# Altium integrated library Altium_WS-TASV (rev22a).IntLib: 87 symbols (part 1 of 2)
Pins are listed as number, name and electrical type; pins without a type are passive.

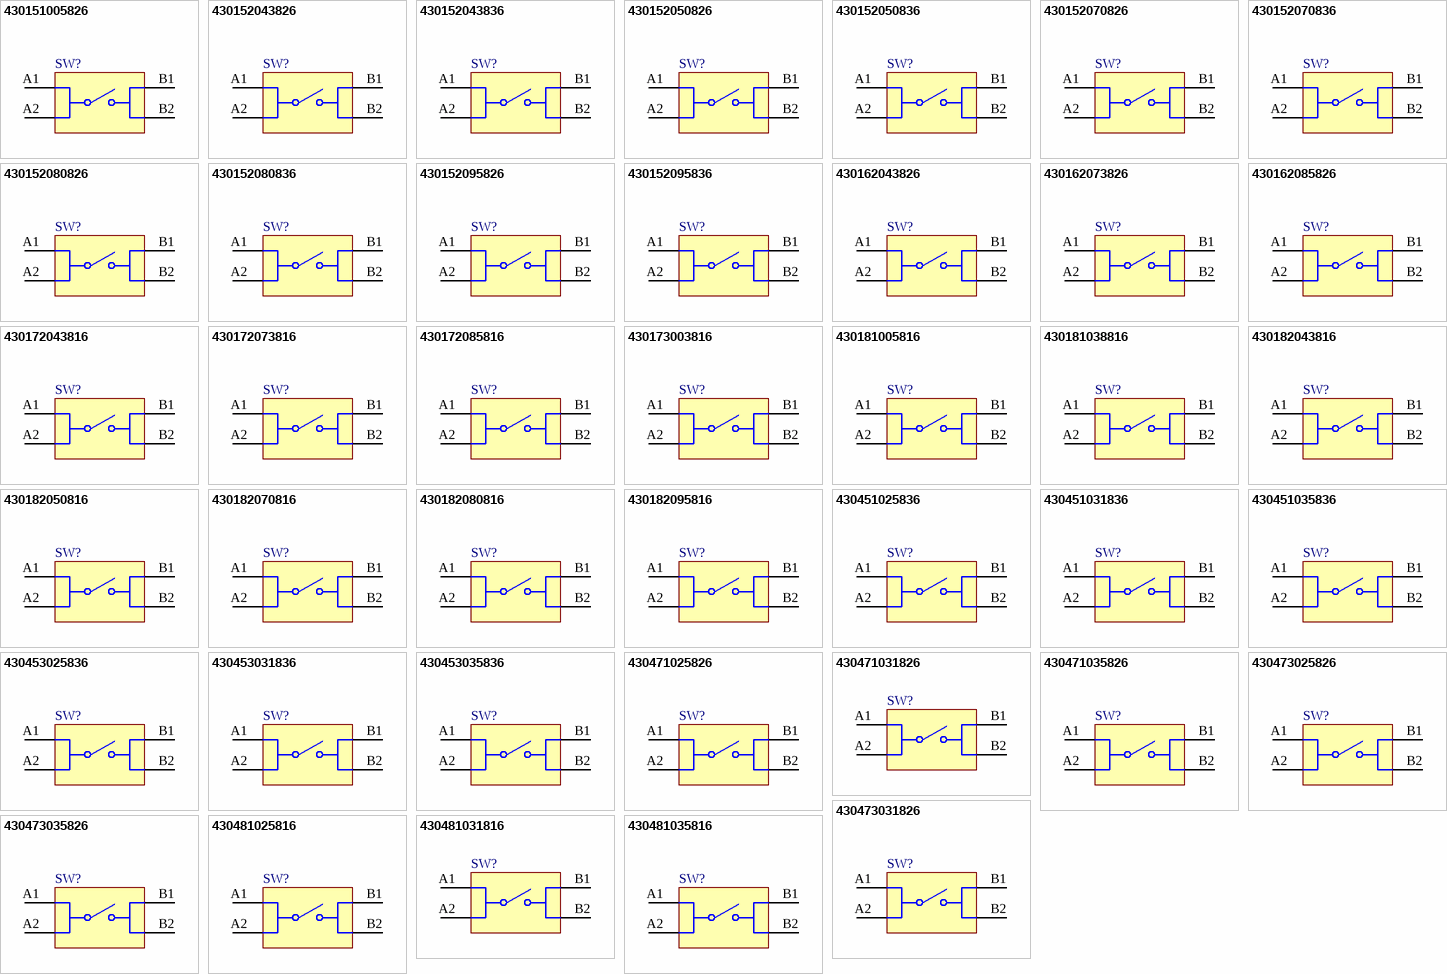
[diagram p0: symbols 430151005826 to 430481035816]

## 430151005826
designator SW?
WS-TASV SMT Tact Switch, 12VDC, 50mA, 260g, height 0.55mm; Manufacturer Part Number: 430151005826; Manufacturer: Wurth Elektronik; Rated Voltage: 12V; Washable: No; Actuator Color: –; Electrical Life: 200000Cycles; ComponentLink1Description: Manufacturer Link; ComponentLink1URL: http://www.we-online.de; ComponentLink2Description: Datasheet; ComponentLink2URL: https://www.we-online.com/catalog/datasheet/430151005826.pdf; Contact Material: Stainless Steel; Mounting Technology: SMT; Contact Plating: Silver; Operation Force: 260g; Packaging: Tape and Reel; Terminal Material: Copper Alloy; Rated Current: 50mA; Terminal Plating: Silver; Height: 0.55mm; Length: 4.5mm; Operating Temperature max.: 85C; Operating Temperature min.: -40C; Width: 4.5mm
footprint WS-TASV_L4.5W4.5H0.55_4301x10058x6
pins: A1, A2, B1, B2

## 430152043826
designator SW?
WS-TASV SMT Tact Switch, 12VDC, 50mA, 260g, height 4.3mm; Manufacturer Part Number: 430152043826; Manufacturer: Wurth Elektronik; Rated Voltage: 12V; Washable: No; Actuator Color: White; Electrical Life: 200000Cycles; ComponentLink1Description: Manufacturer Link; ComponentLink1URL: http://www.we-online.de; ComponentLink2Description: Datasheet; ComponentLink2URL: https://www.we-online.com/catalog/datasheet/430152043826.pdf; Contact Material: Stainless Steel; Mounting Technology: SMT; Contact Plating: Silver; Operation Force: 260g; Packaging: Tape and Reel; Terminal Material: Copper Alloy; Rated Current: 50mA; Terminal Plating: Silver; Height: 4.3mm; Length: 6mm; Operating Temperature max.: 85C; Operating Temperature min.: -40C; Width: 6mm
footprint WS-TASV_L6W6H4.3_4301x20438x6
pins: A1, A2, B1, B2

## 430152043836
designator SW?
WS-TASV SMT Tact Switch, 12VDC, 50mA, 360g, height 4.3mm; Manufacturer Part Number: 430152043836; Manufacturer: Wurth Elektronik; Rated Voltage: 12V; Washable: No; Actuator Color: Salmon; Electrical Life: 200000Cycles; ComponentLink1Description: Manufacturer Link; ComponentLink1URL: http://www.we-online.de; ComponentLink2Description: Datasheet; ComponentLink2URL: https://www.we-online.com/catalog/datasheet/430152043836.pdf; Contact Material: Stainless Steel; Mounting Technology: SMT; Contact Plating: Silver; Operation Force: 360g; Packaging: Tape and Reel; Terminal Material: Copper Alloy; Rated Current: 50mA; Terminal Plating: Silver; Height: 4.3mm; Length: 6mm; Operating Temperature max.: 85C; Operating Temperature min.: -40C; Width: 6mm
footprint WS-TASV_L6W6H4.3_4301x20438x6
pins: A1, A2, B1, B2

## 430152050826
designator SW?
WS-TASV SMT Tact Switch, 12VDC, 50mA, 260g, height 5mm; Manufacturer Part Number: 430152050826; Manufacturer: Wurth Elektronik; Rated Voltage: 12V; Washable: No; Actuator Color: White; Electrical Life: 200000Cycles; ComponentLink1Description: Manufacturer Link; ComponentLink1URL: http://www.we-online.de; ComponentLink2Description: Datasheet; ComponentLink2URL: https://www.we-online.com/catalog/datasheet/430152050826.pdf; Contact Material: Stainless Steel; Mounting Technology: SMT; Contact Plating: Silver; Operation Force: 260g; Packaging: Tape and Reel; Terminal Material: Copper Alloy; Rated Current: 50mA; Terminal Plating: Silver; Height: 5mm; Length: 6mm; Operating Temperature max.: 85C; Operating Temperature min.: -40C; Width: 6mm
footprint WS-TASV_L6W6H5_4301x20508x6
pins: A1, A2, B1, B2

## 430152050836
designator SW?
WS-TASV SMT Tact Switch, 12VDC, 50mA, 360g, height 5mm; Manufacturer Part Number: 430152050836; Manufacturer: Wurth Elektronik; Rated Voltage: 12V; Washable: No; Actuator Color: Salmon; Electrical Life: 200000Cycles; ComponentLink1Description: Manufacturer Link; ComponentLink1URL: http://www.we-online.de; ComponentLink2Description: Datasheet; ComponentLink2URL: https://www.we-online.com/catalog/datasheet/430152050836.pdf; Contact Material: Stainless Steel; Mounting Technology: SMT; Contact Plating: Silver; Operation Force: 360g; Packaging: Tape and Reel; Terminal Material: Copper Alloy; Rated Current: 50mA; Terminal Plating: Silver; Height: 5mm; Length: 6mm; Operating Temperature max.: 85C; Operating Temperature min.: -40C; Width: 6mm
footprint WS-TASV_L6W6H5_4301x20508x6
pins: A1, A2, B1, B2

## 430152070826
designator SW?
WS-TASV SMT Tact Switch, 12VDC, 50mA, 260g, height 7mm; Manufacturer Part Number: 430152070826; Manufacturer: Wurth Elektronik; Rated Voltage: 12V; Washable: No; Actuator Color: White; Electrical Life: 200000Cycles; ComponentLink1Description: Manufacturer Link; ComponentLink1URL: http://www.we-online.de; ComponentLink2Description: Datasheet; ComponentLink2URL: https://www.we-online.com/catalog/datasheet/430152070826.pdf; Contact Material: Stainless Steel; Mounting Technology: SMT; Contact Plating: Silver; Operation Force: 260g; Packaging: Tape and Reel; Terminal Material: Copper Alloy; Rated Current: 50mA; Terminal Plating: Silver; Height: 7mm; Length: 6mm; Operating Temperature max.: 85C; Operating Temperature min.: -40C; Width: 6mm
footprint WS-TASV_L6W6H7_4301x20708x6
pins: A1, A2, B1, B2

## 430152070836
designator SW?
WS-TASV SMT Tact Switch, 12VDC, 50mA, 360g, height 7mm; Manufacturer Part Number: 430152070836; Manufacturer: Wurth Elektronik; Rated Voltage: 12V; Washable: No; Actuator Color: Salmon; Electrical Life: 200000Cycles; ComponentLink1Description: Manufacturer Link; ComponentLink1URL: http://www.we-online.de; ComponentLink2Description: Datasheet; ComponentLink2URL: https://www.we-online.com/catalog/datasheet/430152070836.pdf; Contact Material: Stainless Steel; Mounting Technology: SMT; Contact Plating: Silver; Operation Force: 360g; Packaging: Tape and Reel; Terminal Material: Copper Alloy; Rated Current: 50mA; Terminal Plating: Silver; Height: 7mm; Length: 6mm; Operating Temperature max.: 85C; Operating Temperature min.: -40C; Width: 6mm
footprint WS-TASV_L6W6H7_4301x20708x6
pins: A1, A2, B1, B2

## 430152080826
designator SW?
WS-TASV SMT Tact Switch, 12VDC, 50mA, 260g, height 8mm; Manufacturer Part Number: 430152080826; Manufacturer: Wurth Elektronik; Rated Voltage: 12V; Washable: No; Actuator Color: White; Electrical Life: 200000Cycles; ComponentLink1Description: Manufacturer Link; ComponentLink1URL: http://www.we-online.de; ComponentLink2Description: Datasheet; ComponentLink2URL: https://www.we-online.com/catalog/datasheet/430152080826.pdf; Contact Material: Stainless Steel; Mounting Technology: SMT; Contact Plating: Silver; Operation Force: 260g; Packaging: Tape and Reel; Terminal Material: Copper Alloy; Rated Current: 50mA; Terminal Plating: Silver; Height: 8mm; Length: 6mm; Operating Temperature max.: 85C; Operating Temperature min.: -40C; Width: 6mm
footprint WS-TASV_L6W6H8_4301x20808x6
pins: A1, A2, B1, B2

## 430152080836
designator SW?
WS-TASV SMT Tact Switch, 12VDC, 50mA, 360g, height 8mm; Manufacturer Part Number: 430152080836; Manufacturer: Wurth Elektronik; Rated Voltage: 12V; Washable: No; Actuator Color: Salmon; Electrical Life: 200000Cycles; ComponentLink1Description: Manufacturer Link; ComponentLink1URL: http://www.we-online.de; ComponentLink2Description: Datasheet; ComponentLink2URL: https://www.we-online.com/catalog/datasheet/430152080836.pdf; Contact Material: Stainless Steel; Mounting Technology: SMT; Contact Plating: Silver; Operation Force: 360g; Packaging: Tape and Reel; Terminal Material: Copper Alloy; Rated Current: 50mA; Terminal Plating: Silver; Height: 8mm; Length: 6mm; Operating Temperature max.: 85C; Operating Temperature min.: -40C; Width: 6mm
footprint WS-TASV_L6W6H8_4301x20808x6
pins: A1, A2, B1, B2

## 430152095826
designator SW?
WS-TASV SMT Tact Switch, 12VDC, 50mA, 260g, height 9.5mm; Manufacturer Part Number: 430152095826; Manufacturer: Wurth Elektronik; Rated Voltage: 12V; Washable: No; Actuator Color: White; Electrical Life: 200000Cycles; ComponentLink1Description: Manufacturer Link; ComponentLink1URL: http://www.we-online.de; ComponentLink2Description: Datasheet; ComponentLink2URL: https://www.we-online.com/catalog/datasheet/430152095826.pdf; Contact Material: Stainless Steel; Mounting Technology: SMT; Contact Plating: Silver; Operation Force: 260g; Packaging: Tape and Reel; Terminal Material: Copper Alloy; Rated Current: 50mA; Terminal Plating: Silver; Height: 9.5mm; Length: 6mm; Operating Temperature max.: 85C; Operating Temperature min.: -40C; Width: 6mm
footprint WS-TASV_L6W6H9.5_4301x20958x6
pins: A1, A2, B1, B2

## 430152095836
designator SW?
WS-TASV SMT Tact Switch, 12VDC, 50mA, 360g, height 9.5mm; Manufacturer Part Number: 430152095836; Manufacturer: Wurth Elektronik; Rated Voltage: 12V; Washable: No; Actuator Color: Salmon; Electrical Life: 200000Cycles; ComponentLink1Description: Manufacturer Link; ComponentLink1URL: http://www.we-online.de; ComponentLink2Description: Datasheet; ComponentLink2URL: https://www.we-online.com/catalog/datasheet/430152095836.pdf; Contact Material: Stainless Steel; Mounting Technology: SMT; Contact Plating: Silver; Operation Force: 360g; Packaging: Tape and Reel; Terminal Material: Copper Alloy; Rated Current: 50mA; Terminal Plating: Silver; Height: 9.5mm; Length: 6mm; Operating Temperature max.: 85C; Operating Temperature min.: -40C; Width: 6mm
footprint WS-TASV_L6W6H9.5_4301x20958x6
pins: A1, A2, B1, B2

## 430162043826
designator SW?
WS-TASV SMT Tact Switch, 12VDC, 50mA, 260g, height 4.3mm; Manufacturer Part Number: 430162043826; Manufacturer: Wurth Elektronik; Rated Voltage: 12V; Washable: No; Actuator Color: White; Electrical Life: 300000Cycles; ComponentLink1Description: Manufacturer Link; ComponentLink1URL: http://www.we-online.de; ComponentLink2Description: Datasheet; ComponentLink2URL: https://www.we-online.com/catalog/datasheet/430162043826.pdf; Contact Material: Stainless Steel; Mounting Technology: SMT; Contact Plating: Silver; Operation Force: 260g; Packaging: Tape and Reel; Terminal Material: Copper Alloy; Rated Current: 50mA; Terminal Plating: Silver; Height: 4.3mm; Length: 12mm; Operating Temperature max.: 85C; Operating Temperature min.: -40C; Width: 12mm
footprint WS-TASV_L12W12H4.3_4301x20438x6
pins: A1, A2, B1, B2

## 430162073826
designator SW?
WS-TASV SMT Tact Switch, 12VDC, 50mA, 260g, height 7.3mm; Manufacturer Part Number: 430162073826; Manufacturer: Wurth Elektronik; Rated Voltage: 12V; Washable: No; Actuator Color: White; Electrical Life: 300000Cycles; ComponentLink1Description: Manufacturer Link; ComponentLink1URL: http://www.we-online.de; ComponentLink2Description: Datasheet; ComponentLink2URL: https://www.we-online.com/catalog/datasheet/430162073826.pdf; Contact Material: Stainless Steel; Mounting Technology: SMT; Contact Plating: Silver; Operation Force: 260g; Packaging: Tape and Reel; Terminal Material: Copper Alloy; Rated Current: 50mA; Terminal Plating: Silver; Height: 7.3mm; Length: 12mm; Operating Temperature max.: 85C; Operating Temperature min.: -40C; Width: 12mm
footprint WS-TASV_L12W12H7.3_4301x20738x6
pins: A1, A2, B1, B2

## 430162085826
designator SW?
WS-TASV SMT Tact Switch, 12VDC, 50mA, 260g, height 8.5mm; Manufacturer Part Number: 430162085826; Manufacturer: Wurth Elektronik; Rated Voltage: 12V; Washable: No; Actuator Color: White; Electrical Life: 300000Cycles; ComponentLink1Description: Manufacturer Link; ComponentLink1URL: http://www.we-online.de; ComponentLink2Description: Datasheet; ComponentLink2URL: https://www.we-online.com/catalog/datasheet/430162085826.pdf; Contact Material: Stainless Steel; Mounting Technology: SMT; Contact Plating: Silver; Operation Force: 260g; Packaging: Tape and Reel; Terminal Material: Copper Alloy; Rated Current: 50mA; Terminal Plating: Silver; Height: 8.5mm; Length: 12mm; Operating Temperature max.: 85C; Operating Temperature min.: -40C; Width: 12mm
footprint WS-TASV_L12W12H8.5_4301x20858x6
pins: A1, A2, B1, B2

## 430172043816
designator SW?
WS-TASV SMT Tact Switch, 12VDC, 50mA, 160g, height 4.3mm; Manufacturer Part Number: 430172043816; Manufacturer: Wurth Elektronik; Rated Voltage: 12V; Washable: No; Actuator Color: Black; Electrical Life: 500000Cycles; ComponentLink1Description: Manufacturer Link; ComponentLink1URL: http://www.we-online.de; ComponentLink2Description: Datasheet; ComponentLink2URL: https://www.we-online.com/catalog/datasheet/430172043816.pdf; Contact Material: Stainless Steel; Mounting Technology: SMT; Contact Plating: Silver; Operation Force: 160g; Packaging: Tape and Reel; Terminal Material: Copper Alloy; Rated Current: 50mA; Terminal Plating: Silver; Height: 4.3mm; Length: 12mm; Operating Temperature max.: 85C; Operating Temperature min.: -40C; Width: 12mm
footprint WS-TASV_L12W12H4.3_4301x20438x6
pins: A1, A2, B1, B2

## 430172073816
designator SW?
WS-TASV SMT Tact Switch, 12VDC, 50mA, 160g, height 7.3mm; Manufacturer Part Number: 430172073816; Manufacturer: Wurth Elektronik; Rated Voltage: 12V; Washable: No; Actuator Color: Black; Electrical Life: 500000Cycles; ComponentLink1Description: Manufacturer Link; ComponentLink1URL: http://www.we-online.de; ComponentLink2Description: Datasheet; ComponentLink2URL: https://www.we-online.com/catalog/datasheet/430172073816.pdf; Contact Material: Stainless Steel; Mounting Technology: SMT; Contact Plating: Silver; Operation Force: 160g; Packaging: Tape and Reel; Terminal Material: Copper Alloy; Rated Current: 50mA; Terminal Plating: Silver; Height: 7.3mm; Length: 12mm; Operating Temperature max.: 85C; Operating Temperature min.: -40C; Width: 12mm
footprint WS-TASV_L12W12H7.3_4301x20738x6
pins: A1, A2, B1, B2

## 430172085816
designator SW?
WS-TASV SMT Tact Switch, 12VDC, 50mA, 160g, height 8.5mm; Manufacturer Part Number: 430172085816; Manufacturer: Wurth Elektronik; Rated Voltage: 12V; Washable: No; Actuator Color: Black; Electrical Life: 500000Cycles; ComponentLink1Description: Manufacturer Link; ComponentLink1URL: http://www.we-online.de; ComponentLink2Description: Datasheet; ComponentLink2URL: https://www.we-online.com/catalog/datasheet/430172085816.pdf; Contact Material: Stainless Steel; Mounting Technology: SMT; Contact Plating: Silver; Operation Force: 160g; Packaging: Tape and Reel; Terminal Material: Copper Alloy; Rated Current: 50mA; Terminal Plating: Silver; Height: 8.5mm; Length: 12mm; Operating Temperature max.: 85C; Operating Temperature min.: -40C; Width: 12mm
footprint WS-TASV_L12W12H8.5_4301x20858x6
pins: A1, A2, B1, B2

## 430173003816
designator SW?
WS-TASV J-Bend SMT Tact Switch, 12VDC, 50mA, 160g, height 0.35mm; Manufacturer Part Number: 430173003816; Manufacturer: Wurth Elektronik; Rated Voltage: 12V; Washable: No; Actuator Color: –; Electrical Life: 500000Cycles; ComponentLink1Description: Manufacturer Link; ComponentLink1URL: http://www.we-online.de; ComponentLink2Description: Datasheet; ComponentLink2URL: https://www.we-online.com/catalog/datasheet/430173003816.pdf; Contact Material: Stainless Steel; Mounting Technology: SMT; Contact Plating: Silver; Operation Force: 160g; Packaging: Tape and Reel; Terminal Material: Copper Alloy; Rated Current: 50mA; Terminal Plating: Silver; Height: 0.35mm; Length: 3.7mm; Operating Temperature max.: 85C; Operating Temperature min.: -40C; Width: 3.7mm
footprint WS-TASV_L3.7W3.7H0.35_430173003816
pins: A1, A2, B1, B2

## 430181005816
designator SW?
WS-TASV SMT Tact Switch, 12VDC, 50mA, 160g, height 0.55mm; Manufacturer Part Number: 430181005816; Manufacturer: Wurth Elektronik; Rated Voltage: 12V; Washable: No; Actuator Color: –; Electrical Life: 1000000Cycles; ComponentLink1Description: Manufacturer Link; ComponentLink1URL: http://www.we-online.de; ComponentLink2Description: Datasheet; ComponentLink2URL: https://www.we-online.com/catalog/datasheet/430181005816.pdf; Contact Material: Stainless Steel; Mounting Technology: SMT; Contact Plating: Silver; Operation Force: 160g; Packaging: Tape and Reel; Terminal Material: Copper Alloy; Rated Current: 50mA; Terminal Plating: Silver; Height: 0.55mm; Length: 4.5mm; Operating Temperature max.: 85C; Operating Temperature min.: -40C; Width: 4.5mm
footprint WS-TASV_L4.5W4.5H0.55_4301x10058x6
pins: A1, A2, B1, B2

## 430181038816
designator SW?
WS-TASV SMT Tact Switch, 12VDC, 50mA, 160g, height 3.8mm; Manufacturer Part Number: 430181038816; Manufacturer: Wurth Elektronik; Rated Voltage: 12V; Washable: No; Actuator Color: Black; Electrical Life: 1000000Cycles; ComponentLink1Description: Manufacturer Link; ComponentLink1URL: http://www.we-online.de; ComponentLink2Description: Datasheet; ComponentLink2URL: https://www.we-online.com/catalog/datasheet/430181038816.pdf; Contact Material: Stainless Steel; Mounting Technology: SMT; Contact Plating: Silver; Operation Force: 160g; Packaging: Tape and Reel; Terminal Material: Copper Alloy; Rated Current: 50mA; Terminal Plating: Silver; Height: 3.8mm; Length: 4.5mm; Operating Temperature max.: 85C; Operating Temperature min.: -40C; Width: 4.5mm
footprint WS-TASV_L4.5W4.5H3.8_430181038816
pins: A1, A2, B1, B2

## 430182043816
designator SW?
WS-TASV SMT Tact Switch, 12VDC, 50mA, 160g, height 4.3mm; Manufacturer Part Number: 430182043816; Manufacturer: Wurth Elektronik; Rated Voltage: 12V; Washable: No; Actuator Color: Black; Electrical Life: 1000000Cycles; ComponentLink1Description: Manufacturer Link; ComponentLink1URL: http://www.we-online.de; ComponentLink2Description: Datasheet; ComponentLink2URL: https://www.we-online.com/catalog/datasheet/430182043816.pdf; Contact Material: Stainless Steel; Mounting Technology: SMT; Contact Plating: Silver; Operation Force: 160g; Packaging: Tape and Reel; Terminal Material: Copper Alloy; Rated Current: 50mA; Terminal Plating: Silver; Height: 4.3mm; Length: 6mm; Operating Temperature max.: 85C; Operating Temperature min.: -40C; Width: 6mm
footprint WS-TASV_L6W6H4.3_4301x20438x6
pins: A1, A2, B1, B2

## 430182050816
designator SW?
WS-TASV SMT Tact Switch, 12VDC, 50mA, 160g, height 5mm; Manufacturer Part Number: 430182050816; Manufacturer: Wurth Elektronik; Rated Voltage: 12V; Washable: No; Actuator Color: Black; Electrical Life: 1000000Cycles; ComponentLink1Description: Manufacturer Link; ComponentLink1URL: http://www.we-online.de; ComponentLink2Description: Datasheet; ComponentLink2URL: https://www.we-online.com/catalog/datasheet/430182050816.pdf; Contact Material: Stainless Steel; Mounting Technology: SMT; Contact Plating: Silver; Operation Force: 160g; Packaging: Tape and Reel; Terminal Material: Copper Alloy; Rated Current: 50mA; Terminal Plating: Silver; Height: 5mm; Length: 6mm; Operating Temperature max.: 85C; Operating Temperature min.: -40C; Width: 6mm
footprint WS-TASV_L6W6H5_4301x20508x6
pins: A1, A2, B1, B2

## 430182070816
designator SW?
WS-TASV SMT Tact Switch, 12VDC, 50mA, 160g, height 7mm; Manufacturer Part Number: 430182070816; Manufacturer: Wurth Elektronik; Rated Voltage: 12V; Washable: No; Actuator Color: Black; Electrical Life: 1000000Cycles; ComponentLink1Description: Manufacturer Link; ComponentLink1URL: http://www.we-online.de; ComponentLink2Description: Datasheet; ComponentLink2URL: https://www.we-online.com/catalog/datasheet/430182070816.pdf; Contact Material: Stainless Steel; Mounting Technology: SMT; Contact Plating: Silver; Operation Force: 160g; Packaging: Tape and Reel; Terminal Material: Copper Alloy; Rated Current: 50mA; Terminal Plating: Silver; Height: 7mm; Length: 6mm; Operating Temperature max.: 85C; Operating Temperature min.: -40C; Width: 6mm
footprint WS-TASV_L6W6H7_4301x20708x6
pins: A1, A2, B1, B2

## 430182080816
designator SW?
WS-TASV SMT Tact Switch, 12VDC, 50mA, 160g, height 8mm; Manufacturer Part Number: 430182080816; Manufacturer: Wurth Elektronik; Rated Voltage: 12V; Washable: No; Actuator Color: Black; Electrical Life: 1000000Cycles; ComponentLink1Description: Manufacturer Link; ComponentLink1URL: http://www.we-online.de; ComponentLink2Description: Datasheet; ComponentLink2URL: https://www.we-online.com/catalog/datasheet/430182080816.pdf; Contact Material: Stainless Steel; Mounting Technology: SMT; Contact Plating: Silver; Operation Force: 160g; Packaging: Tape and Reel; Terminal Material: Copper Alloy; Rated Current: 50mA; Terminal Plating: Silver; Height: 8mm; Length: 6mm; Operating Temperature max.: 85C; Operating Temperature min.: -40C; Width: 6mm
footprint WS-TASV_L6W6H8_4301x20808x6
pins: A1, A2, B1, B2

## 430182095816
designator SW?
WS-TASV SMT Tact Switch, 12VDC, 50mA, 160g, height 9.5mm; Manufacturer Part Number: 430182095816; Manufacturer: Wurth Elektronik; Rated Voltage: 12V; Washable: No; Actuator Color: Black; Electrical Life: 1000000Cycles; ComponentLink1Description: Manufacturer Link; ComponentLink1URL: http://www.we-online.de; ComponentLink2Description: Datasheet; ComponentLink2URL: https://www.we-online.com/catalog/datasheet/430182095816.pdf; Contact Material: Stainless Steel; Mounting Technology: SMT; Contact Plating: Silver; Operation Force: 160g; Packaging: Tape and Reel; Terminal Material: Copper Alloy; Rated Current: 50mA; Terminal Plating: Silver; Height: 9.5mm; Length: 6mm; Operating Temperature max.: 85C; Operating Temperature min.: -40C; Width: 6mm
footprint WS-TASV_L6W6H9.5_4301x20958x6
pins: A1, A2, B1, B2

## 430451025836
designator SW?
WS-TASV SMT Washable Tact Switch, 12VDC, 50mA, 360g, height 2.5mm; Manufacturer Part Number: 430451025836; Manufacturer: Wurth Elektronik; Rated Voltage: 12V; Washable: Yes; Actuator Color: Salmon; Electrical Life: 200000Cycles; ComponentLink1Description: Manufacturer Link; ComponentLink1URL: http://www.we-online.de; ComponentLink2Description: Datasheet; ComponentLink2URL: https://www.we-online.com/catalog/datasheet/430451025836.pdf; Contact Material: Stainless Steel; Mounting Technology: SMT; Contact Plating: Silver; Operation Force: 360g; Packaging: Tape and Reel; Terminal Material: Brass; Rated Current: 50mA; Terminal Plating: Silver; Height: 2.5mm; Length: 6mm; Operating Temperature max.: 85C; Operating Temperature min.: -40C; Width: 6mm
footprint WS-TASV_L6W6H2.5_4304x10258x6
pins: A1, A2, B1, B2

## 430451031836
designator SW?
WS-TASV SMT Washable Tact Switch, 12VDC, 50mA, 360g, height 3.1mm; Manufacturer Part Number: 430451031836; Manufacturer: Wurth Elektronik; Rated Voltage: 12V; Washable: Yes; Actuator Color: Salmon; Electrical Life: 200000Cycles; ComponentLink1Description: Manufacturer Link; ComponentLink1URL: http://www.we-online.de; ComponentLink2Description: Datasheet; ComponentLink2URL: https://www.we-online.com/catalog/datasheet/430451031836.pdf; Contact Material: Stainless Steel; Mounting Technology: SMT; Contact Plating: Silver; Operation Force: 360g; Packaging: Tape and Reel; Terminal Material: Brass; Rated Current: 50mA; Terminal Plating: Silver; Height: 3.1mm; Length: 6mm; Operating Temperature max.: 85C; Operating Temperature min.: -40C; Width: 6mm
footprint WS-TASV_L6W6H3.1_4304x10318x6
pins: A1, A2, B1, B2

## 430451035836
designator SW?
WS-TASV SMT Washable Tact Switch, 12VDC, 50mA, 360g, height 3.5mm; Manufacturer Part Number: 430451035836; Manufacturer: Wurth Elektronik; Rated Voltage: 12V; Washable: Yes; Actuator Color: Salmon; Electrical Life: 200000Cycles; ComponentLink1Description: Manufacturer Link; ComponentLink1URL: http://www.we-online.de; ComponentLink2Description: Datasheet; ComponentLink2URL: https://www.we-online.com/catalog/datasheet/430451035836.pdf; Contact Material: Stainless Steel; Mounting Technology: SMT; Contact Plating: Silver; Operation Force: 360g; Packaging: Tape and Reel; Terminal Material: Brass; Rated Current: 50mA; Terminal Plating: Silver; Height: 3.5mm; Length: 6mm; Operating Temperature max.: 85C; Operating Temperature min.: -40C; Width: 6mm
footprint WS-TASV_L6W6H3.5_4304x10358x6
pins: A1, A2, B1, B2

## 430453025836
designator SW?
WS-TASV J-Bend SMT Washable Tact Switch, 12VDC, 50mA, 360g, height 2.5mm; Manufacturer Part Number: 430453025836; Manufacturer: Wurth Elektronik; Rated Voltage: 12V; Washable: Yes; Actuator Color: Salmon; Electrical Life: 200000Cycles; ComponentLink1Description: Manufacturer Link; ComponentLink1URL: http://www.we-online.de; ComponentLink2Description: Datasheet; ComponentLink2URL: https://www.we-online.com/catalog/datasheet/430453025836.pdf; Contact Material: Stainless Steel; Mounting Technology: SMT; Contact Plating: Silver; Operation Force: 360g; Packaging: Tape and Reel; Terminal Material: Copper Alloy; Rated Current: 50mA; Terminal Plating: Silver; Height: 2.5mm; Length: 6mm; Operating Temperature max.: 85C; Operating Temperature min.: -40C; Width: 6mm
footprint WS-TASV_L6W6H2.5_4304x30258x6
pins: A1, A2, B1, B2

## 430453031836
designator SW?
WS-TASV J-Bend SMT Washable Tact Switch, 12VDC, 50mA, 360g, height 3.1mm; Manufacturer Part Number: 430453031836; Manufacturer: Wurth Elektronik; Rated Voltage: 12V; Washable: Yes; Actuator Color: Salmon; Electrical Life: 200000Cycles; ComponentLink1Description: Manufacturer Link; ComponentLink1URL: http://www.we-online.de; ComponentLink2Description: Datasheet; ComponentLink2URL: https://www.we-online.com/catalog/datasheet/430453031836.pdf; Contact Material: Stainless Steel; Mounting Technology: SMT; Contact Plating: Silver; Operation Force: 360g; Packaging: Tape and Reel; Terminal Material: Copper Alloy; Rated Current: 50mA; Terminal Plating: Silver; Height: 3.1mm; Length: 6mm; Operating Temperature max.: 85C; Operating Temperature min.: -40C; Width: 6mm
footprint WS-TASV_L6W6H3.1_4304x30318x6
pins: A1, A2, B1, B2

## 430453035836
designator SW?
WS-TASV J-Bend SMT Washable Tact Switch, 12VDC, 50mA, 360g, height 3.5mm; Manufacturer Part Number: 430453035836; Manufacturer: Wurth Elektronik; Rated Voltage: 12V; Washable: Yes; Actuator Color: Salmon; Electrical Life: 200000Cycles; ComponentLink1Description: Manufacturer Link; ComponentLink1URL: http://www.we-online.de; ComponentLink2Description: Datasheet; ComponentLink2URL: https://www.we-online.com/catalog/datasheet/430453035836.pdf; Contact Material: Stainless Steel; Mounting Technology: SMT; Contact Plating: Silver; Operation Force: 360g; Packaging: Tape and Reel; Terminal Material: Copper Alloy; Rated Current: 50mA; Terminal Plating: Silver; Height: 3.5mm; Length: 6mm; Operating Temperature max.: 85C; Operating Temperature min.: -40C; Width: 6mm
footprint WS-TASV_L6W6H3.5_4304x30358x6
pins: A1, A2, B1, B2

## 430471025826
designator SW?
WS-TASV SMT Washable Tact Switch, 12VDC, 50mA, 260g, height 2.5mm; Manufacturer Part Number: 430471025826; Manufacturer: Wurth Elektronik; Rated Voltage: 12V; Washable: Yes; Actuator Color: White; Electrical Life: 500000Cycles; ComponentLink1Description: Manufacturer Link; ComponentLink1URL: http://www.we-online.de; ComponentLink2Description: Datasheet; ComponentLink2URL: https://www.we-online.com/catalog/datasheet/430471025826.pdf; Contact Material: Stainless Steel; Mounting Technology: SMT; Contact Plating: Silver; Operation Force: 260g; Packaging: Tape and Reel; Terminal Material: Brass; Rated Current: 50mA; Terminal Plating: Silver; Height: 2.5mm; Length: 6mm; Operating Temperature max.: 85C; Operating Temperature min.: -40C; Width: 6mm
footprint WS-TASV_L6W6H2.5_4304x10258x6
pins: A1, A2, B1, B2

## 430471031826
designator SW?
WS-TASV SMT Washable Tact Switch, 12VDC, 50mA, 260g, height 3.1mm; Manufacturer Part Number: 430471031826; Manufacturer: Wurth Elektronik; Rated Voltage: 12V; Washable: Yes; Actuator Color: White; Electrical Life: 500000Cycles; ComponentLink1Description: Manufacturer Link; ComponentLink1URL: http://www.we-online.de; ComponentLink2Description: Datasheet; ComponentLink2URL: https://www.we-online.com/catalog/datasheet/430471031826.pdf; Contact Material: Stainless Steel; Mounting Technology: SMT; Contact Plating: Silver; Operation Force: 260g; Packaging: Tape and Reel; Terminal Material: Brass; Rated Current: 50mA; Terminal Plating: Silver; Height: 3.1mm; Length: 6mm; Operating Temperature max.: 85C; Operating Temperature min.: -40C; Width: 6mm
footprint WS-TASV_L6W6H3.1_4304x10318x6
pins: A1, A2, B1, B2

## 430471035826
designator SW?
WS-TASV SMT Washable Tact Switch, 12VDC, 50mA, 260g, height 3.5mm; Manufacturer Part Number: 430471035826; Manufacturer: Wurth Elektronik; Rated Voltage: 12V; Washable: Yes; Actuator Color: White; Electrical Life: 500000Cycles; ComponentLink1Description: Manufacturer Link; ComponentLink1URL: http://www.we-online.de; ComponentLink2Description: Datasheet; ComponentLink2URL: https://www.we-online.com/catalog/datasheet/430471035826.pdf; Contact Material: Stainless Steel; Mounting Technology: SMT; Contact Plating: Silver; Operation Force: 260g; Packaging: Tape and Reel; Terminal Material: Brass; Rated Current: 50mA; Terminal Plating: Silver; Height: 3.5mm; Length: 6mm; Operating Temperature max.: 85C; Operating Temperature min.: -40C; Width: 6mm
footprint WS-TASV_L6W6H3.5_4304x10358x6
pins: A1, A2, B1, B2

## 430473025826
designator SW?
WS-TASV J-Bend SMT Washable Tact Switch, 12VDC, 50mA, 260g, height 2.5mm; Manufacturer Part Number: 430473025826; Manufacturer: Wurth Elektronik; Rated Voltage: 12V; Washable: Yes; Actuator Color: White; Electrical Life: 500000Cycles; ComponentLink1Description: Manufacturer Link; ComponentLink1URL: http://www.we-online.de; ComponentLink2Description: Datasheet; ComponentLink2URL: https://www.we-online.com/catalog/datasheet/430473025826.pdf; Contact Material: Stainless Steel; Mounting Technology: SMT; Contact Plating: Silver; Operation Force: 260g; Packaging: Tape and Reel; Terminal Material: Copper Alloy; Rated Current: 50mA; Terminal Plating: Silver; Height: 2.5mm; Length: 6mm; Operating Temperature max.: 85C; Operating Temperature min.: -40C; Width: 6mm
footprint WS-TASV_L6W6H2.5_4304x30258x6
pins: A1, A2, B1, B2

## 430473031826
designator SW?
WS-TASV J-Bend SMT Washable Tact Switch, 12VDC, 50mA, 260g, height 3.1mm; Manufacturer Part Number: 430473031826; Manufacturer: Wurth Elektronik; Rated Voltage: 12V; Washable: Yes; Actuator Color: White; Electrical Life: 500000Cycles; ComponentLink1Description: Manufacturer Link; ComponentLink1URL: http://www.we-online.de; ComponentLink2Description: Datasheet; ComponentLink2URL: https://www.we-online.com/catalog/datasheet/430473031826.pdf; Contact Material: Stainless Steel; Mounting Technology: SMT; Contact Plating: Silver; Operation Force: 260g; Packaging: Tape and Reel; Terminal Material: Copper Alloy; Rated Current: 50mA; Terminal Plating: Silver; Height: 3.1mm; Length: 6mm; Operating Temperature max.: 85C; Operating Temperature min.: -40C; Width: 6mm
footprint WS-TASV_L6W6H3.1_4304x30318x6
pins: A1, A2, B1, B2

## 430473035826
designator SW?
WS-TASV J-Bend SMT Washable Tact Switch, 12VDC, 50mA, 260g, height 3.5mm; Manufacturer Part Number: 430473035826; Manufacturer: Wurth Elektronik; Rated Voltage: 12V; Washable: Yes; Actuator Color: White; Electrical Life: 500000Cycles; ComponentLink1Description: Manufacturer Link; ComponentLink1URL: http://www.we-online.de; ComponentLink2Description: Datasheet; ComponentLink2URL: https://www.we-online.com/catalog/datasheet/430473035826.pdf; Contact Material: Stainless Steel; Mounting Technology: SMT; Contact Plating: Silver; Operation Force: 260g; Packaging: Tape and Reel; Terminal Material: Copper Alloy; Rated Current: 50mA; Terminal Plating: Silver; Height: 3.5mm; Length: 6mm; Operating Temperature max.: 85C; Operating Temperature min.: -40C; Width: 6mm
footprint WS-TASV_L6W6H3.5_4304x30358x6
pins: A1, A2, B1, B2

## 430481025816
designator SW?
WS-TASV SMT Washable Tact Switch, 12VDC, 50mA, 160g, height 2.5mm; Manufacturer Part Number: 430481025816; Manufacturer: Wurth Elektronik; Rated Voltage: 12V; Washable: Yes; Actuator Color: Black; Electrical Life: 1000000Cycles; ComponentLink1Description: Manufacturer Link; ComponentLink1URL: http://www.we-online.de; ComponentLink2Description: Datasheet; ComponentLink2URL: https://www.we-online.com/catalog/datasheet/430481025816.pdf; Contact Material: Stainless Steel; Mounting Technology: SMT; Contact Plating: Silver; Operation Force: 160g; Packaging: Tape and Reel; Terminal Material: Brass; Rated Current: 50mA; Terminal Plating: Silver; Height: 2.5mm; Length: 6mm; Operating Temperature max.: 85C; Operating Temperature min.: -40C; Width: 6mm
footprint WS-TASV_L6W6H2.5_4304x10258x6
pins: A1, A2, B1, B2

## 430481031816
designator SW?
WS-TASV SMT Washable Tact Switch, 12VDC, 50mA, 160g, height 3.1mm; Manufacturer Part Number: 430481031816; Manufacturer: Wurth Elektronik; Rated Voltage: 12V; Washable: Yes; Actuator Color: Black; Electrical Life: 1000000Cycles; ComponentLink1Description: Manufacturer Link; ComponentLink1URL: http://www.we-online.de; ComponentLink2Description: Datasheet; ComponentLink2URL: https://www.we-online.com/catalog/datasheet/430481031816.pdf; Contact Material: Stainless Steel; Mounting Technology: SMT; Contact Plating: Silver; Operation Force: 160g; Packaging: Tape and Reel; Terminal Material: Brass; Rated Current: 50mA; Terminal Plating: Silver; Height: 3.1mm; Length: 6mm; Operating Temperature max.: 85C; Operating Temperature min.: -40C; Width: 6mm
footprint WS-TASV_L6W6H3.1_4304x10318x6
pins: A1, A2, B1, B2

## 430481035816
designator SW?
WS-TASV SMT Washable Tact Switch, 12VDC, 50mA, 160g, height 3.5mm; Manufacturer Part Number: 430481035816; Manufacturer: Wurth Elektronik; Rated Voltage: 12V; Washable: Yes; Actuator Color: Black; Electrical Life: 1000000Cycles; ComponentLink1Description: Manufacturer Link; ComponentLink1URL: http://www.we-online.de; ComponentLink2Description: Datasheet; ComponentLink2URL: https://www.we-online.com/catalog/datasheet/430481035816.pdf; Contact Material: Stainless Steel; Mounting Technology: SMT; Contact Plating: Silver; Operation Force: 160g; Packaging: Tape and Reel; Terminal Material: Brass; Rated Current: 50mA; Terminal Plating: Silver; Height: 3.5mm; Length: 6mm; Operating Temperature max.: 85C; Operating Temperature min.: -40C; Width: 6mm
footprint WS-TASV_L6W6H3.5_4304x10358x6
pins: A1, A2, B1, B2

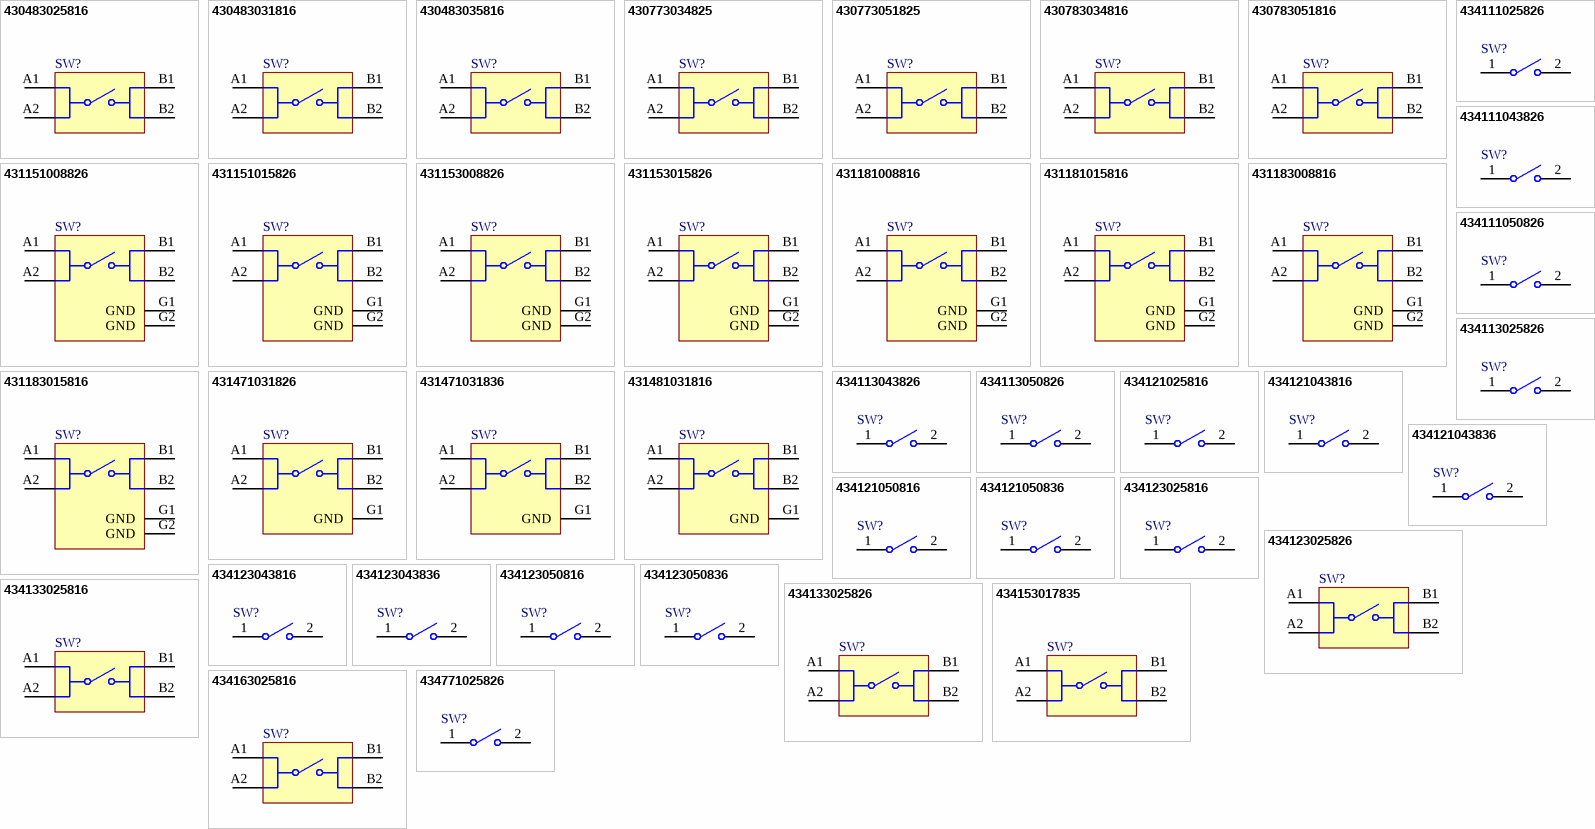
[diagram p1: symbols 430483025816 to 434771025826]

## 430483025816
designator SW?
WS-TASV J-Bend SMT Washable Tact Switch, 12VDC, 50mA, 160g, height 2.5mm; Manufacturer Part Number: 430483025816; Manufacturer: Wurth Elektronik; Rated Voltage: 12V; Washable: Yes; Actuator Color: Black; Electrical Life: 1000000Cycles; ComponentLink1Description: Manufacturer Link; ComponentLink1URL: http://www.we-online.de; ComponentLink2Description: Datasheet; ComponentLink2URL: https://www.we-online.com/catalog/datasheet/430483025816.pdf; Contact Material: Stainless Steel; Mounting Technology: SMT; Contact Plating: Silver; Operation Force: 160g; Packaging: Tape and Reel; Terminal Material: Copper Alloy; Rated Current: 50mA; Terminal Plating: Silver; Height: 2.5mm; Length: 6mm; Operating Temperature max.: 85C; Operating Temperature min.: -40C; Width: 6mm
footprint WS-TASV_L6W6H2.5_4304x30258x6
pins: A1, A2, B1, B2

## 430483031816
designator SW?
WS-TASV J-Bend SMT Washable Tact Switch, 12VDC, 50mA, 160g, height 3.1mm; Manufacturer Part Number: 430483031816; Manufacturer: Wurth Elektronik; Rated Voltage: 12V; Washable: Yes; Actuator Color: Black; Electrical Life: 1000000Cycles; ComponentLink1Description: Manufacturer Link; ComponentLink1URL: http://www.we-online.de; ComponentLink2Description: Datasheet; ComponentLink2URL: https://www.we-online.com/catalog/datasheet/430483031816.pdf; Contact Material: Stainless Steel; Mounting Technology: SMT; Contact Plating: Silver; Operation Force: 160g; Packaging: Tape and Reel; Terminal Material: Copper Alloy; Rated Current: 50mA; Terminal Plating: Silver; Height: 3.1mm; Length: 6mm; Operating Temperature max.: 85C; Operating Temperature min.: -40C; Width: 6mm
footprint WS-TASV_L6W6H3.1_4304x30318x6
pins: A1, A2, B1, B2

## 430483035816
designator SW?
WS-TASV J-Bend SMT Washable Tact Switch, 12VDC, 50mA, 160g, height 3.5mm; Manufacturer Part Number: 430483035816; Manufacturer: Wurth Elektronik; Rated Voltage: 12V; Washable: Yes; Actuator Color: Black; Electrical Life: 1000000Cycles; ComponentLink1Description: Manufacturer Link; ComponentLink1URL: http://www.we-online.de; ComponentLink2Description: Datasheet; ComponentLink2URL: https://www.we-online.com/catalog/datasheet/430483035816.pdf; Contact Material: Stainless Steel; Mounting Technology: SMT; Contact Plating: Silver; Operation Force: 160g; Packaging: Tape and Reel; Terminal Material: Copper Alloy; Rated Current: 50mA; Terminal Plating: Silver; Height: 3.5mm; Length: 6mm; Operating Temperature max.: 85C; Operating Temperature min.: -40C; Width: 6mm
footprint WS-TASV_L6W6H3.5_4304x30358x6
pins: A1, A2, B1, B2

## 430773034825
designator SW?
WS-TASV J-Hook SMT Hermetic Tact Switch, 12VDC, 50mA, 250g, height 3.4mm; Manufacturer Part Number: 430773034825; Manufacturer: Wurth Elektronik; Rated Voltage: 12V; Washable: Yes; Actuator Color: Grey; Electrical Life: 500000Cycles; ComponentLink1Description: Manufacturer Link; ComponentLink1URL: http://www.we-online.de; ComponentLink2Description: Datasheet; ComponentLink2URL: https://www.we-online.com/catalog/datasheet/430773034825.pdf; Contact Material: Stainless Steel; Mounting Technology: SMT; Contact Plating: Silver; Operation Force: 250g; Packaging: Tape and Reel; Terminal Material: Copper Alloy; Rated Current: 50mA; Terminal Plating: Silver; Height: 3.4mm; Length: 6mm; Operating Temperature max.: 85C; Operating Temperature min.: -40C; Width: 6mm
footprint WS-TASV_L6W6H3.4_4307x30348xx
pins: A1, A2, B1, B2

## 430773051825
designator SW?
WS-TASV J-Hook SMT Hermetic Tact Switch, 12VDC, 50mA, 250g, height 5.1mm; Manufacturer Part Number: 430773051825; Manufacturer: Wurth Elektronik; Rated Voltage: 12V; Washable: Yes; Actuator Color: Grey; Electrical Life: 500000Cycles; ComponentLink1Description: Manufacturer Link; ComponentLink1URL: http://www.we-online.de; ComponentLink2Description: Datasheet; ComponentLink2URL: https://www.we-online.com/catalog/datasheet/430773051825.pdf; Contact Material: Stainless Steel; Mounting Technology: SMT; Contact Plating: Silver; Operation Force: 250g; Packaging: Tape and Reel; Terminal Material: Copper Alloy; Rated Current: 50mA; Terminal Plating: Silver; Height: 5.1mm; Length: 6mm; Operating Temperature max.: 85C; Operating Temperature min.: -40C; Width: 6mm
footprint WS-TASV_L6W6H5.1_4307x30518xx
pins: A1, A2, B1, B2

## 430783034816
designator SW?
WS-TASV J-Hook SMT Hermetic Tact Switch, 12VDC, 50mA, 160g, height 3.4mm; Manufacturer Part Number: 430783034816; Manufacturer: Wurth Elektronik; Rated Voltage: 12V; Washable: Yes; Actuator Color: White; Electrical Life: 1000000Cycles; ComponentLink1Description: Manufacturer Link; ComponentLink1URL: http://www.we-online.de; ComponentLink2Description: Datasheet; ComponentLink2URL: https://www.we-online.com/catalog/datasheet/430783034816.pdf; Contact Material: Stainless Steel; Mounting Technology: SMT; Contact Plating: Silver; Operation Force: 160g; Packaging: Tape and Reel; Terminal Material: Copper Alloy; Rated Current: 50mA; Terminal Plating: Silver; Height: 3.4mm; Length: 6mm; Operating Temperature max.: 85C; Operating Temperature min.: -40C; Width: 6mm
footprint WS-TASV_L6W6H3.4_4307x30348xx
pins: A1, A2, B1, B2

## 430783051816
designator SW?
WS-TASV J-Hook SMT Hermetic Tact Switch, 12VDC, 50mA, 160g, height 5.1mm; Manufacturer Part Number: 430783051816; Manufacturer: Wurth Elektronik; Rated Voltage: 12V; Washable: Yes; Actuator Color: White; Electrical Life: 1000000Cycles; ComponentLink1Description: Manufacturer Link; ComponentLink1URL: http://www.we-online.de; ComponentLink2Description: Datasheet; ComponentLink2URL: https://www.we-online.com/catalog/datasheet/430783051816.pdf; Contact Material: Stainless Steel; Mounting Technology: SMT; Contact Plating: Silver; Operation Force: 160g; Packaging: Tape and Reel; Terminal Material: Copper Alloy; Rated Current: 50mA; Terminal Plating: Silver; Height: 5.1mm; Length: 6mm; Operating Temperature max.: 85C; Operating Temperature min.: -40C; Width: 6mm
footprint WS-TASV_L6W6H5.1_4307x30518xx
pins: A1, A2, B1, B2

## 431151008826
designator SW?
WS-TASV SMT Tact Switch with ground terminal, 15VDC, 20mA, 260g, height 0.8mm; Manufacturer Part Number: 431151008826; Manufacturer: Wurth Elektronik; Rated Voltage: 15V; Washable: No; Actuator Color: –; Electrical Life: 200000Cycles; ComponentLink1Description: Manufacturer Link; ComponentLink1URL: http://www.we-online.de; ComponentLink2Description: Datasheet; ComponentLink2URL: https://www.we-online.com/catalog/datasheet/431151008826.pdf; Contact Material: Stainless Steel; Mounting Technology: SMT; Contact Plating: Silver; Operation Force: 260g; Packaging: Tape and Reel; Terminal Material: Copper Alloy; Rated Current: 20mA; Terminal Plating: Silver; Height: 0.8mm; Length: 5mm; Operating Temperature max.: 85C; Operating Temperature min.: -40C; Width: 5mm
footprint WS-TASV_L5W5H0.8_4311x10088x6
pins: A1, A2, B1, B2, G1 GND, G2 GND

## 431151015826
designator SW?
WS-TASV SMT Tact Switch with ground terminal, 15VDC, 20mA, 260g, height 1.5mm; Manufacturer Part Number: 431151015826; Manufacturer: Wurth Elektronik; Rated Voltage: 15V; Washable: No; Actuator Color: White; Electrical Life: 200000Cycles; ComponentLink1Description: Manufacturer Link; ComponentLink1URL: http://www.we-online.de; ComponentLink2Description: Datasheet; ComponentLink2URL: https://www.we-online.com/catalog/datasheet/431151015826.pdf; Contact Material: Stainless Steel; Mounting Technology: SMT; Contact Plating: Silver; Operation Force: 260g; Packaging: Tape and Reel; Terminal Material: Copper Alloy; Rated Current: 20mA; Terminal Plating: Silver; Height: 1.5mm; Length: 5mm; Operating Temperature max.: 85C; Operating Temperature min.: -40C; Width: 5mm
footprint WS-TASV_L5W5H1.5_4311x10158x6
pins: A1, A2, B1, B2, G1 GND, G2 GND

## 431153008826
designator SW?
WS-TASV J-Bend SMT Tact Switch with ground terminal, 15VDC, 20mA, 260g, height 0.8mm; Manufacturer Part Number: 431153008826; Manufacturer: Wurth Elektronik; Rated Voltage: 15V; Washable: No; Actuator Color: –; Electrical Life: 200000Cycles; ComponentLink1Description: Manufacturer Link; ComponentLink1URL: http://www.we-online.de; ComponentLink2Description: Datasheet; ComponentLink2URL: https://www.we-online.com/catalog/datasheet/431153008826.pdf; Contact Material: Stainless Steel; Mounting Technology: SMT; Contact Plating: Silver; Operation Force: 260g; Packaging: Tape and Reel; Terminal Material: Copper Alloy; Rated Current: 20mA; Terminal Plating: Silver; Height: 0.8mm; Length: 5mm; Operating Temperature max.: 85C; Operating Temperature min.: -40C; Width: 5mm
footprint WS-TASV_L5W5H0.8_4311x30088x6
pins: A1, A2, B1, B2, G1 GND, G2 GND

## 431153015826
designator SW?
WS-TASV J-Bend SMT Tact Switch with ground terminal, 15VDC, 20mA, 260g, height 1.5mm; Manufacturer Part Number: 431153015826; Manufacturer: Wurth Elektronik; Rated Voltage: 15V; Washable: No; Actuator Color: White; Electrical Life: 200000Cycles; ComponentLink1Description: Manufacturer Link; ComponentLink1URL: http://www.we-online.de; ComponentLink2Description: Datasheet; ComponentLink2URL: https://www.we-online.com/catalog/datasheet/431153015826.pdf; Contact Material: Stainless Steel; Mounting Technology: SMT; Contact Plating: Silver; Operation Force: 260g; Packaging: Tape and Reel; Terminal Material: Copper Alloy; Rated Current: 20mA; Terminal Plating: Silver; Height: 1.5mm; Length: 5mm; Operating Temperature max.: 85C; Operating Temperature min.: -40C; Width: 5mm
footprint WS-TASV_L5W5H1.5_4311x30158x6
pins: A1, A2, B1, B2, G1 GND, G2 GND

## 431181008816
designator SW?
WS-TASV SMT Tact Switch with ground terminal, 15VDC, 20mA, 160g, height 0.8mm; Manufacturer Part Number: 431181008816; Manufacturer: Wurth Elektronik; Rated Voltage: 15V; Washable: No; Actuator Color: –; Electrical Life: 1000000Cycles; ComponentLink1Description: Manufacturer Link; ComponentLink1URL: http://www.we-online.de; ComponentLink2Description: Datasheet; ComponentLink2URL: https://www.we-online.com/catalog/datasheet/431181008816.pdf; Contact Material: Stainless Steel; Mounting Technology: SMT; Contact Plating: Silver; Operation Force: 160g; Packaging: Tape and Reel; Terminal Material: Copper Alloy; Rated Current: 20mA; Terminal Plating: Silver; Height: 0.8mm; Length: 5mm; Operating Temperature max.: 85C; Operating Temperature min.: -40C; Width: 5mm
footprint WS-TASV_L5W5H0.8_4311x10088x6
pins: A1, A2, B1, B2, G1 GND, G2 GND

## 431181015816
designator SW?
WS-TASV SMT Tact Switch with ground terminal, 15VDC, 20mA, 160g, height 1.5mm; Manufacturer Part Number: 431181015816; Manufacturer: Wurth Elektronik; Rated Voltage: 15V; Washable: No; Actuator Color: Black; Electrical Life: 1000000Cycles; ComponentLink1Description: Manufacturer Link; ComponentLink1URL: http://www.we-online.de; ComponentLink2Description: Datasheet; ComponentLink2URL: https://www.we-online.com/catalog/datasheet/431181015816.pdf; Contact Material: Stainless Steel; Mounting Technology: SMT; Contact Plating: Silver; Operation Force: 160g; Packaging: Tape and Reel; Terminal Material: Copper Alloy; Rated Current: 20mA; Terminal Plating: Silver; Height: 1.5mm; Length: 5mm; Operating Temperature max.: 85C; Operating Temperature min.: -40C; Width: 5mm
footprint WS-TASV_L5W5H1.5_4311x10158x6
pins: A1, A2, B1, B2, G1 GND, G2 GND

## 431183008816
designator SW?
WS-TASV J-Bend SMT Tact Switch with ground terminal, 15VDC, 20mA, 160g, height 0.8mm; Manufacturer Part Number: 431183008816; Manufacturer: Wurth Elektronik; Rated Voltage: 15V; Washable: No; Actuator Color: –; Electrical Life: 1000000Cycles; ComponentLink1Description: Manufacturer Link; ComponentLink1URL: http://www.we-online.de; ComponentLink2Description: Datasheet; ComponentLink2URL: https://www.we-online.com/catalog/datasheet/431183008816.pdf; Contact Material: Stainless Steel; Mounting Technology: SMT; Contact Plating: Silver; Operation Force: 160g; Packaging: Tape and Reel; Terminal Material: Copper Alloy; Rated Current: 20mA; Terminal Plating: Silver; Height: 0.8mm; Length: 5mm; Operating Temperature max.: 85C; Operating Temperature min.: -40C; Width: 5mm
footprint WS-TASV_L5W5H0.8_4311x30088x6
pins: A1, A2, B1, B2, G1 GND, G2 GND

## 431183015816
designator SW?
WS-TASV J-Bend SMT Tact Switch with ground terminal, 15VDC, 20mA, 160g, height 1.5mm; Manufacturer Part Number: 431183015816; Manufacturer: Wurth Elektronik; Rated Voltage: 15V; Washable: No; Actuator Color: Black; Electrical Life: 1000000Cycles; ComponentLink1Description: Manufacturer Link; ComponentLink1URL: http://www.we-online.de; ComponentLink2Description: Datasheet; ComponentLink2URL: https://www.we-online.com/catalog/datasheet/431183015816.pdf; Contact Material: Stainless Steel; Mounting Technology: SMT; Contact Plating: Silver; Operation Force: 160g; Packaging: Tape and Reel; Terminal Material: Copper Alloy; Rated Current: 20mA; Terminal Plating: Silver; Height: 1.5mm; Length: 5mm; Operating Temperature max.: 85C; Operating Temperature min.: -40C; Width: 5mm
footprint WS-TASV_L5W5H1.5_4311x30158x6
pins: A1, A2, B1, B2, G1 GND, G2 GND

## 431471031826
designator SW?
WS-TASV SMT Tact Switch with ground terminal, 12VDC, 50mA, 260g, height 3.1mm; Manufacturer Part Number: 431471031826; Manufacturer: Wurth Elektronik; Rated Voltage: 12V; Washable: Yes; Actuator Color: White; Electrical Life: 500000Cycles; ComponentLink1Description: Manufacturer Link; ComponentLink1URL: http://www.we-online.de; ComponentLink2Description: Datasheet; ComponentLink2URL: https://www.we-online.com/catalog/datasheet/431471031826.pdf; Contact Material: Stainless Steel; Mounting Technology: SMT; Contact Plating: Silver; Operation Force: 260g; Packaging: Tape and Reel; Terminal Material: Copper Alloy; Rated Current: 50mA; Terminal Plating: Silver; Height: 3.1mm; Length: 6mm; Operating Temperature max.: 85C; Operating Temperature min.: -40C; Width: 6mm
footprint WS-TASV_L6W6H3.1_4314x10318x6
pins: A1, A2, B1, B2, G1 GND

## 431471031836
designator SW?
WS-TASV SMT Tact Switch with ground terminal, 12VDC, 50mA, 360g, height 3.1mm; Manufacturer Part Number: 431471031836; Manufacturer: Wurth Elektronik; Rated Voltage: 12V; Washable: Yes; Actuator Color: Salmon; Electrical Life: 500000Cycles; ComponentLink1Description: Manufacturer Link; ComponentLink1URL: http://www.we-online.de; ComponentLink2Description: Datasheet; ComponentLink2URL: https://www.we-online.com/catalog/datasheet/431471031836.pdf; Contact Material: Stainless Steel; Mounting Technology: SMT; Contact Plating: Silver; Operation Force: 360g; Packaging: Tape and Reel; Terminal Material: Copper Alloy; Rated Current: 50mA; Terminal Plating: Silver; Height: 3.1mm; Length: 6mm; Operating Temperature max.: 85C; Operating Temperature min.: -40C; Width: 6mm
footprint WS-TASV_L6W6H3.1_4314x10318x6
pins: A1, A2, B1, B2, G1 GND

## 431481031816
designator SW?
WS-TASV SMT Tact Switch with ground terminal, 12VDC, 50mA, 160g, height 3.1mm; Manufacturer Part Number: 431481031816; Manufacturer: Wurth Elektronik; Rated Voltage: 12V; Washable: Yes; Actuator Color: Black; Electrical Life: 1000000Cycles; ComponentLink1Description: Manufacturer Link; ComponentLink1URL: http://www.we-online.de; ComponentLink2Description: Datasheet; ComponentLink2URL: https://www.we-online.com/catalog/datasheet/431481031816.pdf; Contact Material: Stainless Steel; Mounting Technology: SMT; Contact Plating: Silver; Operation Force: 160g; Packaging: Tape and Reel; Terminal Material: Copper Alloy; Rated Current: 50mA; Terminal Plating: Silver; Height: 3.1mm; Length: 6mm; Operating Temperature max.: 85C; Operating Temperature min.: -40C; Width: 6mm
footprint WS-TASV_L6W6H3.1_4314x10318x6
pins: A1, A2, B1, B2, G1 GND